# Altium footprint library 3.贴片芯片封装.PcbLib: 26 footprints (part 1 of 2)
Each footprint in its own frame and in the unit in brackets; x right, y up, seen from the top. Pads: shape width x height; smd on the part's side, far side on the other; paste and mask are expansions set on the pad; w line width, h text height; cw(c..) or ccw(c..) is an arc to the next point about the centre after c.
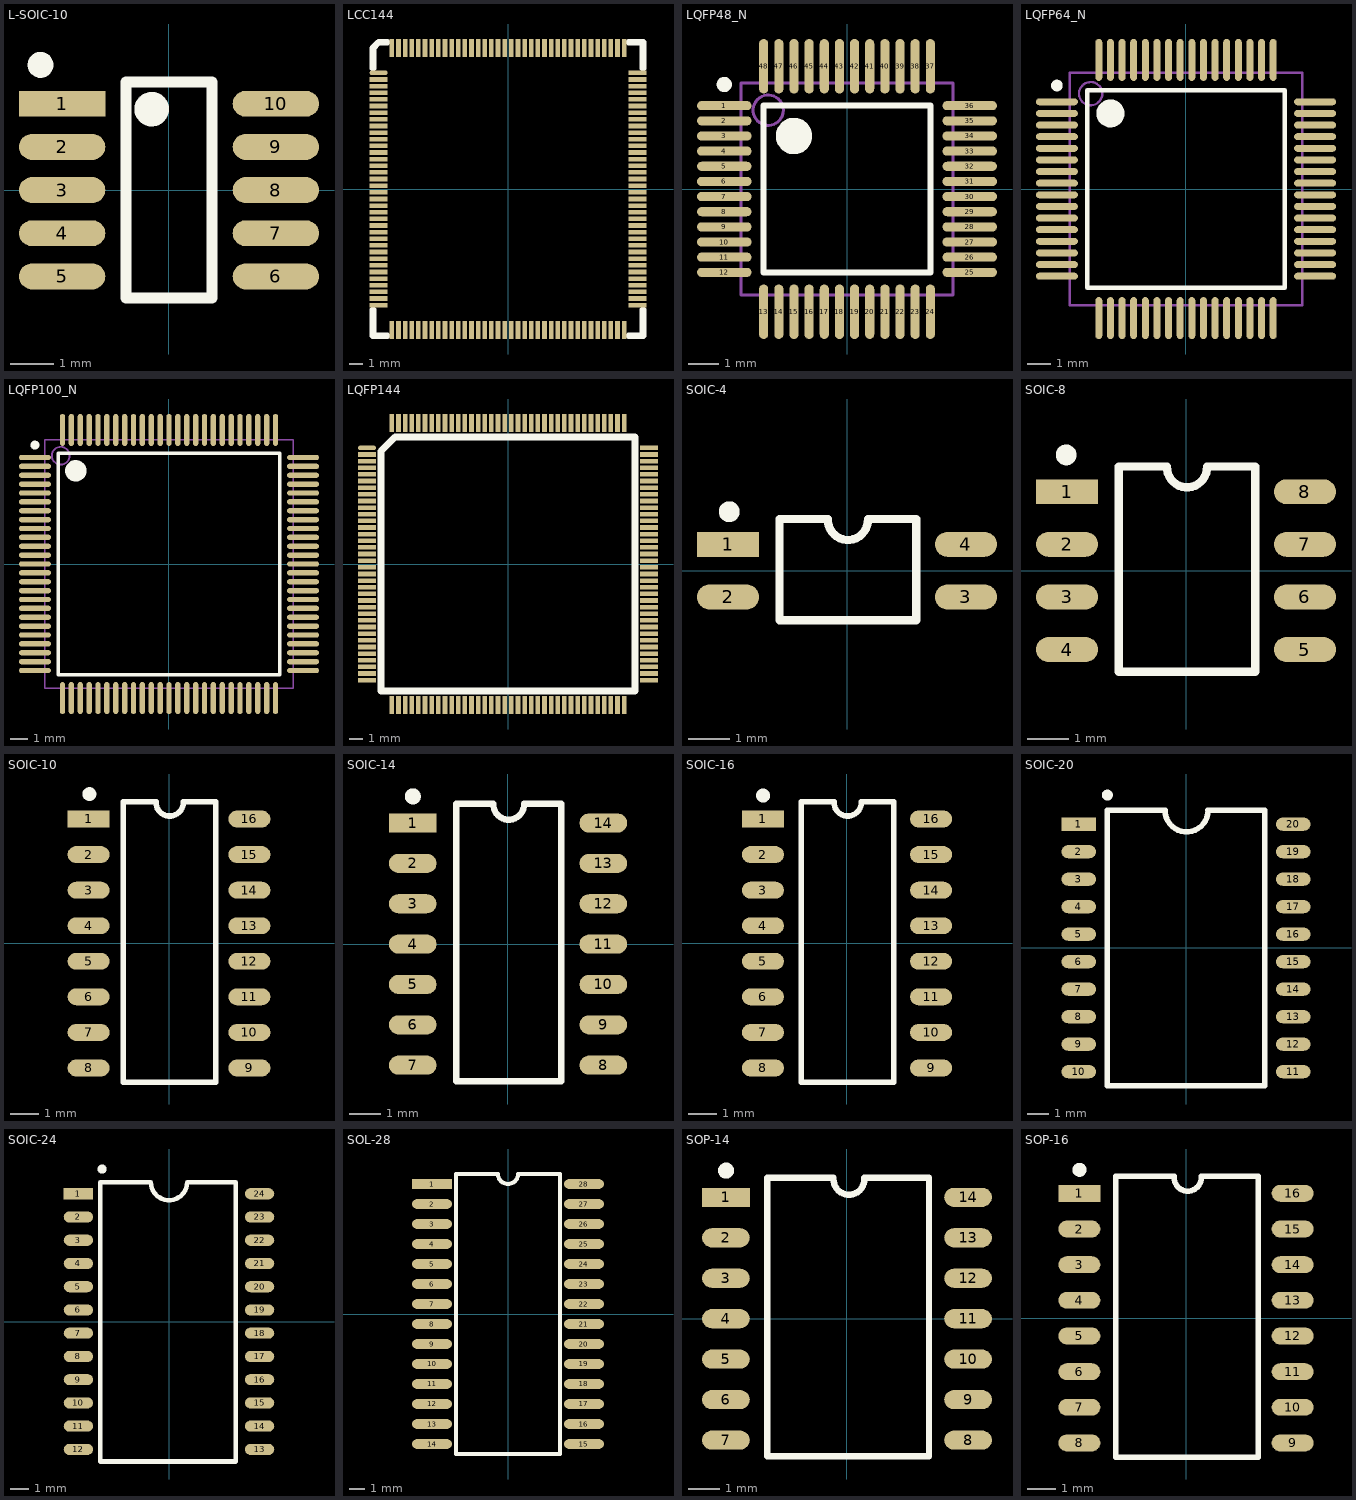
[diagram p0: the footprints below, top view; thin cyan lines are the x and y axes]

## L-SOIC-10 [mm]
pads (10):
  rect 2x0.6 smd: 1(-2.475,2)
  oval 2x0.6 smd: 2(-2.475,1) 3(-2.475,0) 4(-2.475,-1) 5(-2.475,-2) 6(2.475,-2) 7(2.475,-1) 8(2.475,0) 9(2.475,1) 10(2.475,2)
Top Overlay:
  circle w0.3: c-2.975,2.9 r0.15
  circle w0.4: c-0.4,1.875 r0.2
  lines w0.254: -1,-2.5 -1,2.5 1,2.5 1,-2.5 -1,-2.5

## LCC144 [mm]
pads (144):
  oval 1.35x0.35 smd: 1(-9.75,8.75)
  rect 1.35x0.35 smd: 2(-9.75,8.25) 3(-9.75,7.75) 4(-9.75,7.25) 5(-9.75,6.75) 6(-9.75,6.25) 7(-9.75,5.75) 8(-9.75,5.25) 9(-9.75,4.75) 10(-9.75,4.25) 11(-9.75,3.75) 12(-9.75,3.25) 13(-9.75,2.75) 14(-9.75,2.25) 15(-9.75,1.75) 16(-9.75,1.25) 17(-9.75,0.75) 18(-9.75,0.25) 19(-9.75,-0.25) 20(-9.75,-0.75) 21(-9.75,-1.25) 22(-9.75,-1.75) 23(-9.75,-2.25) 24(-9.75,-2.75) 25(-9.75,-3.25) 26(-9.75,-3.75) 27(-9.75,-4.25) 28(-9.75,-4.75) 29(-9.75,-5.25) 30(-9.75,-5.75) 31(-9.75,-6.25) 32(-9.75,-6.75) 33(-9.75,-7.25) 34(-9.75,-7.75) 35(-9.75,-8.25) 36(-9.75,-8.75) 73(9.75,-8.75) 74(9.75,-8.25) 75(9.75,-7.75) 76(9.75,-7.25) 77(9.75,-6.75) 78(9.75,-6.25) 79(9.75,-5.75) 80(9.75,-5.25) 81(9.75,-4.75) 82(9.75,-4.25) 83(9.75,-3.75) 84(9.75,-3.25) 85(9.75,-2.75) 86(9.75,-2.25) 87(9.75,-1.75) 88(9.75,-1.25) 89(9.75,-0.75) 90(9.75,-0.25) 91(9.75,0.25) 92(9.75,0.75) 93(9.75,1.25) 94(9.75,1.75) 95(9.75,2.25) 96(9.75,2.75) 97(9.75,3.25) 98(9.75,3.75) 99(9.75,4.25) 100(9.75,4.75) 101(9.75,5.25) 102(9.75,5.75) 103(9.75,6.25) 104(9.75,6.75) 105(9.75,7.25) 106(9.75,7.75) 107(9.75,8.25) 108(9.75,8.75)
  rect 0.35x1.35 smd: 37(-8.75,-10.625) 38(-8.25,-10.625) 39(-7.75,-10.625) 40(-7.25,-10.625) 41(-6.75,-10.625) 42(-6.25,-10.625) 43(-5.75,-10.625) 44(-5.25,-10.625) 45(-4.75,-10.625) 46(-4.25,-10.625) 47(-3.75,-10.625) 48(-3.25,-10.625) 49(-2.75,-10.625) 50(-2.25,-10.625) 51(-1.75,-10.625) 52(-1.25,-10.625) 53(-0.75,-10.625) 54(-0.25,-10.625) 55(0.25,-10.625) 56(0.75,-10.625) 57(1.25,-10.625) 58(1.75,-10.625) 59(2.25,-10.625) 60(2.75,-10.625) 61(3.25,-10.625) 62(3.75,-10.625) 63(4.25,-10.625) 64(4.75,-10.625) 65(5.25,-10.625) 66(5.75,-10.625) 67(6.25,-10.625) 68(6.75,-10.625) 69(7.25,-10.625) 70(7.75,-10.625) 71(8.25,-10.625) 72(8.75,-10.625) 109(8.75,10.625) 110(8.25,10.625) 111(7.75,10.625) 112(7.25,10.625) 113(6.75,10.625) 114(6.25,10.625) 115(5.75,10.625) 116(5.25,10.625) 117(4.75,10.625) 118(4.25,10.625) 119(3.75,10.625) 120(3.25,10.625) 121(2.75,10.625) 122(2.25,10.625) 123(1.75,10.625) 124(1.25,10.625) 125(0.75,10.625) 126(0.25,10.625) 127(-0.25,10.625) 128(-0.75,10.625) 129(-1.25,10.625) 130(-1.75,10.625) 131(-2.25,10.625) 132(-2.75,10.625) 133(-3.25,10.625) 134(-3.75,10.625) 135(-4.25,10.625) 136(-4.75,10.625) 137(-5.25,10.625) 138(-5.75,10.625) 139(-6.25,10.625) 140(-6.75,10.625) 141(-7.25,10.625) 142(-7.75,10.625) 143(-8.25,10.625) 144(-8.75,10.625)
Top Overlay:
  lines w0.5: -10.175,-9.1 -10.175,-11.05 -9.1,-11.05 ; -10.175,9.1 -10.175,10.625 -9.75,11.05 -9.1,11.05 ; 9.1,-11.05 10.175,-11.05 10.175,-9.1 ; 9.1,11.05 10.175,11.05 10.175,9.1

## LQFP48_N [mm]
pads (48):
  oval 1.8x0.3 smd: 1(-4.05,2.75) 2(-4.05,2.25) 3(-4.05,1.75) 4(-4.05,1.25) 5(-4.05,0.75) 6(-4.05,0.25) 7(-4.05,-0.25) 8(-4.05,-0.75) 9(-4.05,-1.25) 10(-4.05,-1.75) 11(-4.05,-2.25) 12(-4.05,-2.75) 25(4.05,-2.75) 26(4.05,-2.25) 27(4.05,-1.75) 28(4.05,-1.25) 29(4.05,-0.75) 30(4.05,-0.25) 31(4.05,0.25) 32(4.05,0.75) 33(4.05,1.25) 34(4.05,1.75) 35(4.05,2.25) 36(4.05,2.75)
  oval 0.3x1.8 smd: 13(-2.75,-4.05) 14(-2.25,-4.05) 15(-1.75,-4.05) 16(-1.25,-4.05) 17(-0.75,-4.05) 18(-0.25,-4.05) 19(0.25,-4.05) 20(0.75,-4.05) 21(1.25,-4.05) 22(1.75,-4.05) 23(2.25,-4.05) 24(2.75,-4.05) 37(2.75,4.05) 38(2.25,4.05) 39(1.75,4.05) 40(1.25,4.05) 41(0.75,4.05) 42(0.25,4.05) 43(-0.25,4.05) 44(-0.75,4.05) 45(-1.25,4.05) 46(-1.75,4.05) 47(-2.25,4.05) 48(-2.75,4.05)
Top Overlay:
  circle w0.25: c-4.05,3.45 r0.125
  circle w0.6: c-1.75,1.75 r0.3
  lines w0.2: -2.75,-2.75 -2.75,2.75 2.75,2.75 2.75,-2.75 -2.75,-2.75
Mechanical 13:
  circle w0.1: c-2.6,2.6 r0.5
  lines w0.1: -3.5,-3.5 -3.5,3.5 3.5,3.5 3.5,-3.5 -3.5,-3.5

## LQFP64_N [mm]
pads (64):
  oval 1.8x0.3 smd: 1(-5.55,3.75) 2(-5.55,3.25) 3(-5.55,2.75) 4(-5.55,2.25) 5(-5.55,1.75) 6(-5.55,1.25) 7(-5.55,0.75) 8(-5.55,0.25) 9(-5.55,-0.25) 10(-5.55,-0.75) 11(-5.55,-1.25) 12(-5.55,-1.75) 13(-5.55,-2.25) 14(-5.55,-2.75) 15(-5.55,-3.25) 16(-5.55,-3.75) 33(5.55,-3.75) 34(5.55,-3.25) 35(5.55,-2.75) 36(5.55,-2.25) 37(5.55,-1.75) 38(5.55,-1.25) 39(5.55,-0.75) 40(5.55,-0.25) 41(5.55,0.25) 42(5.55,0.75) 43(5.55,1.25) 44(5.55,1.75) 45(5.55,2.25) 46(5.55,2.75) 47(5.55,3.25) 48(5.55,3.75)
  oval 0.3x1.8 smd: 17(-3.75,-5.55) 18(-3.25,-5.55) 19(-2.75,-5.55) 20(-2.25,-5.55) 21(-1.75,-5.55) 22(-1.25,-5.55) 23(-0.75,-5.55) 24(-0.25,-5.55) 25(0.25,-5.55) 26(0.75,-5.55) 27(1.25,-5.55) 28(1.75,-5.55) 29(2.25,-5.55) 30(2.75,-5.55) 31(3.25,-5.55) 32(3.75,-5.55) 49(3.75,5.55) 50(3.25,5.55) 51(2.75,5.55) 52(2.25,5.55) 53(1.75,5.55) 54(1.25,5.55) 55(0.75,5.55) 56(0.25,5.55) 57(-0.25,5.55) 58(-0.75,5.55) 59(-1.25,5.55) 60(-1.75,5.55) 61(-2.25,5.55) 62(-2.75,5.55) 63(-3.25,5.55) 64(-3.75,5.55)
Top Overlay:
  circle w0.25: c-5.55,4.45 r0.125
  circle w0.6: c-3.25,3.25 r0.3
  lines w0.2: -4.25,-4.25 -4.25,4.25 4.25,4.25 4.25,-4.25 -4.25,-4.25
Mechanical 13:
  circle w0.1: c-4.1,4.1 r0.5
  lines w0.1: -5,-5 -5,5 5,5 5,-5 -5,-5

## LQFP100_N [mm]
pads (100):
  oval 1.8x0.3 smd: 1(-7.55,6) 2(-7.55,5.5) 3(-7.55,5) 4(-7.55,4.5) 5(-7.55,4) 6(-7.55,3.5) 7(-7.55,3) 8(-7.55,2.5) 9(-7.55,2) 10(-7.55,1.5) 11(-7.55,1) 12(-7.55,0.5) 13(-7.55,0) 14(-7.55,-0.5) 15(-7.55,-1) 16(-7.55,-1.5) 17(-7.55,-2) 18(-7.55,-2.5) 19(-7.55,-3) 20(-7.55,-3.5) 21(-7.55,-4) 22(-7.55,-4.5) 23(-7.55,-5) 24(-7.55,-5.5) 25(-7.55,-6) 51(7.55,-6) 52(7.55,-5.5) 53(7.55,-5) 54(7.55,-4.5) 55(7.55,-4) 56(7.55,-3.5) 57(7.55,-3) 58(7.55,-2.5) 59(7.55,-2) 60(7.55,-1.5) 61(7.55,-1) 62(7.55,-0.5) 63(7.55,0) 64(7.55,0.5) 65(7.55,1) 66(7.55,1.5) 67(7.55,2) 68(7.55,2.5) 69(7.55,3) 70(7.55,3.5) 71(7.55,4) 72(7.55,4.5) 73(7.55,5) 74(7.55,5.5) 75(7.55,6)
  oval 0.3x1.8 smd: 26(-6,-7.55) 27(-5.5,-7.55) 28(-5,-7.55) 29(-4.5,-7.55) 30(-4,-7.55) 31(-3.5,-7.55) 32(-3,-7.55) 33(-2.5,-7.55) 34(-2,-7.55) 35(-1.5,-7.55) 36(-1,-7.55) 37(-0.5,-7.55) 38(0,-7.55) 39(0.5,-7.55) 40(1,-7.55) 41(1.5,-7.55) 42(2,-7.55) 43(2.5,-7.55) 44(3,-7.55) 45(3.5,-7.55) 46(4,-7.55) 47(4.5,-7.55) 48(5,-7.55) 49(5.5,-7.55) 50(6,-7.55) 76(6,7.55) 77(5.5,7.55) 78(5,7.55) 79(4.5,7.55) 80(4,7.55) 81(3.5,7.55) 82(3,7.55) 83(2.5,7.55) 84(2,7.55) 85(1.5,7.55) 86(1,7.55) 87(0.5,7.55) 88(0,7.55) 89(-0.5,7.55) 90(-1,7.55) 91(-1.5,7.55) 92(-2,7.55) 93(-2.5,7.55) 94(-3,7.55) 95(-3.5,7.55) 96(-4,7.55) 97(-4.5,7.55) 98(-5,7.55) 99(-5.5,7.55) 100(-6,7.55)
Top Overlay:
  circle w0.25: c-7.55,6.7 r0.125
  circle w0.6: c-5.25,5.25 r0.3
  lines w0.2: -6.25,-6.25 -6.25,6.25 6.25,6.25 6.25,-6.25 -6.25,-6.25
Mechanical 13:
  circle w0.1: c-6.1,6.1 r0.5
  lines w0.1: -7,-7 -7,7 7,7 7,-7 -7,-7

## LQFP144 [mm]
pads (144):
  oval 1.35x0.35 smd: 1(-10.625,8.75)
  rect 1.35x0.35 smd: 2(-10.625,8.25) 3(-10.625,7.75) 4(-10.625,7.25) 5(-10.625,6.75) 6(-10.625,6.25) 7(-10.625,5.75) 8(-10.625,5.25) 9(-10.625,4.75) 10(-10.625,4.25) 11(-10.625,3.75) 12(-10.625,3.25) 13(-10.625,2.75) 14(-10.625,2.25) 15(-10.625,1.75) 16(-10.625,1.25) 17(-10.625,0.75) 18(-10.625,0.25) 19(-10.625,-0.25) 20(-10.625,-0.75) 21(-10.625,-1.25) 22(-10.625,-1.75) 23(-10.625,-2.25) 24(-10.625,-2.75) 25(-10.625,-3.25) 26(-10.625,-3.75) 27(-10.625,-4.25) 28(-10.625,-4.75) 29(-10.625,-5.25) 30(-10.625,-5.75) 31(-10.625,-6.25) 32(-10.625,-6.75) 33(-10.625,-7.25) 34(-10.625,-7.75) 35(-10.625,-8.25) 36(-10.625,-8.75) 73(10.625,-8.75) 74(10.625,-8.25) 75(10.625,-7.75) 76(10.625,-7.25) 77(10.625,-6.75) 78(10.625,-6.25) 79(10.625,-5.75) 80(10.625,-5.25) 81(10.625,-4.75) 82(10.625,-4.25) 83(10.625,-3.75) 84(10.625,-3.25) 85(10.625,-2.75) 86(10.625,-2.25) 87(10.625,-1.75) 88(10.625,-1.25) 89(10.625,-0.75) 90(10.625,-0.25) 91(10.625,0.25) 92(10.625,0.75) 93(10.625,1.25) 94(10.625,1.75) 95(10.625,2.25) 96(10.625,2.75) 97(10.625,3.25) 98(10.625,3.75) 99(10.625,4.25) 100(10.625,4.75) 101(10.625,5.25) 102(10.625,5.75) 103(10.625,6.25) 104(10.625,6.75) 105(10.625,7.25) 106(10.625,7.75) 107(10.625,8.25) 108(10.625,8.75)
  rect 0.35x1.35 smd: 37(-8.75,-10.625) 38(-8.25,-10.625) 39(-7.75,-10.625) 40(-7.25,-10.625) 41(-6.75,-10.625) 42(-6.25,-10.625) 43(-5.75,-10.625) 44(-5.25,-10.625) 45(-4.75,-10.625) 46(-4.25,-10.625) 47(-3.75,-10.625) 48(-3.25,-10.625) 49(-2.75,-10.625) 50(-2.25,-10.625) 51(-1.75,-10.625) 52(-1.25,-10.625) 53(-0.75,-10.625) 54(-0.25,-10.625) 55(0.25,-10.625) 56(0.75,-10.625) 57(1.25,-10.625) 58(1.75,-10.625) 59(2.25,-10.625) 60(2.75,-10.625) 61(3.25,-10.625) 62(3.75,-10.625) 63(4.25,-10.625) 64(4.75,-10.625) 65(5.25,-10.625) 66(5.75,-10.625) 67(6.25,-10.625) 68(6.75,-10.625) 69(7.25,-10.625) 70(7.75,-10.625) 71(8.25,-10.625) 72(8.75,-10.625) 109(8.75,10.625) 110(8.25,10.625) 111(7.75,10.625) 112(7.25,10.625) 113(6.75,10.625) 114(6.25,10.625) 115(5.75,10.625) 116(5.25,10.625) 117(4.75,10.625) 118(4.25,10.625) 119(3.75,10.625) 120(3.25,10.625) 121(2.75,10.625) 122(2.25,10.625) 123(1.75,10.625) 124(1.25,10.625) 125(0.75,10.625) 126(0.25,10.625) 127(-0.25,10.625) 128(-0.75,10.625) 129(-1.25,10.625) 130(-1.75,10.625) 131(-2.25,10.625) 132(-2.75,10.625) 133(-3.25,10.625) 134(-3.75,10.625) 135(-4.25,10.625) 136(-4.75,10.625) 137(-5.25,10.625) 138(-5.75,10.625) 139(-6.25,10.625) 140(-6.75,10.625) 141(-7.25,10.625) 142(-7.75,10.625) 143(-8.25,10.625) 144(-8.75,10.625)
Top Overlay:
  lines w0.5: -9.565,-9.565 9.565,-9.565 9.565,9.565 -8.505,9.565 -9.565,8.505 -9.565,-9.565

## SOIC-4 [mm]
pads (4):
  rect 1.5x0.6 smd: 1(-2.87,0.635)
  oval 1.5x0.6 smd: 2(-2.87,-0.635) 3(2.87,-0.635) 4(2.87,0.635)
Top Overlay:
  circle w0.25: c-2.843,1.422 r0.125
  lines w0.2: -1.628,-1.194 1.674,-1.194 1.674,1.245 0.505,1.245 cw(c0.023,1.223) -0.46,1.244 -1.628,1.245 -1.628,-1.194

## SOIC-8 [mm]
pads (8):
  rect 1.5x0.6 smd: 1(-2.872,1.905)
  oval 1.5x0.6 smd: 2(-2.872,0.635) 3(-2.872,-0.635) 4(-2.872,-1.905) 5(2.872,-1.905) 6(2.872,-0.635) 7(2.872,0.635) 8(2.872,1.905)
Top Overlay:
  circle w0.25: c-2.894,2.794 r0.125
  lines w0.2: -1.627,-2.438 -1.627,2.515 -0.459,2.515 ccw(c0.024,2.493) 0.507,2.515 1.675,2.515 1.675,-2.438 -1.627,-2.438

## SOIC-10 [mm]
pads (16):
  rect 1.5x0.6 smd: 1(-2.87,4.445)
  oval 1.5x0.6 smd: 2(-2.87,3.175) 3(-2.87,1.905) 4(-2.87,0.635) 5(-2.87,-0.635) 6(-2.87,-1.905) 7(-2.87,-3.175) 8(-2.87,-4.445) 9(2.87,-4.445) 10(2.87,-3.175) 11(2.87,-1.905) 12(2.87,-0.635) 13(2.87,0.635) 14(2.87,1.905) 15(2.87,3.175) 16(2.87,4.445)
Top Overlay:
  circle w0.25: c-2.843,5.334 r0.125
  lines w0.2: -1.628,-4.953 -1.628,5.055 -0.46,5.055 ccw(c0.023,5.033) 0.505,5.055 1.674,5.055 1.674,-4.953 -1.628,-4.953

## SOIC-14 [mm]
pads (14):
  rect 1.5x0.6 smd: 1(-3,3.81)
  oval 1.5x0.6 smd: 2(-3,2.54) 3(-3,1.27) 4(-3,0) 5(-3,-1.27) 6(-3,-2.54) 7(-3,-3.81) 8(3,-3.81) 9(3,-2.54) 10(3,-1.27) 11(3,0) 12(3,1.27) 13(3,2.54) 14(3,3.81)
Top Overlay:
  circle w0.25: c-2.995,4.648 r0.125
  lines w0.2: -1.628,-4.318 1.674,-4.318 1.674,4.42 0.505,4.42 cw(c0.023,4.398) -0.46,4.419 -1.628,4.42 -1.628,-4.293

## SOIC-16 [mm]
pads (16):
  rect 1.5x0.6 smd: 1(-3,4.445)
  oval 1.5x0.6 smd: 2(-3,3.175) 3(-3,1.905) 4(-3,0.635) 5(-3,-0.635) 6(-3,-1.905) 7(-3,-3.175) 8(-3,-4.445) 9(3,-4.445) 10(3,-3.175) 11(3,-1.905) 12(3,-0.635) 13(3,0.635) 14(3,1.905) 15(3,3.175) 16(3,4.445)
Top Overlay:
  circle w0.25: c-2.995,5.283 r0.125
  lines w0.2: -1.628,-4.953 1.674,-4.953 1.674,5.055 0.505,5.055 cw(c0.023,5.033) -0.46,5.054 -1.628,5.055 -1.628,-4.953

## SOIC-20 [mil]
pads (20):
  rect 62.99x24 smd: 1(-195,225)
  oval 62.99x24 smd: 2(-195,175) 3(-195,125) 4(-195,75) 5(-195,25) 6(-195,-25) 7(-195,-75) 8(-195,-125) 9(-195,-175) 10(-195,-225) 11(195,-225) 12(195,-175) 13(195,-125) 14(195,-75) 15(195,-25) 16(195,25) 17(195,75) 18(195,125) 19(195,175) 20(195,225)
Top Overlay:
  circle w9.84: c-142.92,278 r4.92
  lines w10: -143,-251 143,-251 143,250 40,250 cw(c1,250) -38,250 -143,250 -143,-251

## SOIC-24 [mil]
pads (24):
  rect 62.99x24 smd: 1(-195,275)
  oval 62.99x24 smd: 2(-195,225) 3(-195,175) 4(-195,125) 5(-195,75) 6(-195,25) 7(-195,-25) 8(-195,-75) 9(-195,-125) 10(-195,-175) 11(-195,-225) 12(-195,-275) 13(195,-275) 14(195,-225) 15(195,-175) 16(195,-125) 17(195,-75) 18(195,-25) 19(195,25) 20(195,75) 21(195,125) 22(195,175) 23(195,225) 24(195,275)
Top Overlay:
  circle w9.84: c-143.92,328 r4.92
  lines w10: -148,-301 144,-301 144,300 39,300 cw(c0,300) -39,300 -148,300 -148,-301

## SOL-28 [mil]
pads (28):
  rect 100x24 smd: 1(-190,325)
  oval 100x24 smd: 2(-190,275) 3(-190,225) 4(-190,175) 5(-190,125) 6(-190,75) 7(-190,25) 8(-190,-25) 9(-190,-75) 10(-190,-125) 11(-190,-175) 12(-190,-225) 13(-190,-275) 14(-190,-325) 15(190,-325) 16(190,-275) 17(190,-225) 18(190,-175) 19(190,-125) 20(190,-75) 21(190,-25) 22(190,25) 23(190,75) 24(190,125) 25(190,175) 26(190,225) 27(190,275) 28(190,325)
Top Overlay:
  lines w10: -130,-350 -130,350 -25,350 ccw(c0,350) 25,350 130,350 130,-350 -130,-350

## SOP-14 [mm]
pads (14):
  rect 1.5x0.6 smd: 1(-3.8,3.81)
  oval 1.5x0.6 smd: 2(-3.8,2.54) 3(-3.8,1.27) 4(-3.8,0) 5(-3.8,-1.27) 6(-3.8,-2.54) 7(-3.8,-3.81) 8(3.8,-3.81) 9(3.8,-2.54) 10(3.8,-1.27) 11(3.8,0) 12(3.8,1.27) 13(3.8,2.54) 14(3.8,3.81)
Top Overlay:
  circle w0.25: c-3.795,4.648 r0.125
  lines w0.2: -0.422,4.394 ccw(c0.061,4.373) 0.543,4.394 ; -0.422,4.42 -2.505,4.42 -2.505,-4.318 2.575,-4.318 2.575,4.42 0.543,4.42

## SOP-16 [mm]
pads (16):
  rect 1.5x0.6 smd: 1(-3.8,4.445)
  oval 1.5x0.6 smd: 2(-3.8,3.175) 3(-3.8,1.905) 4(-3.8,0.635) 5(-3.8,-0.635) 6(-3.8,-1.905) 7(-3.8,-3.175) 8(-3.8,-4.445) 9(3.8,-4.445) 10(3.8,-3.175) 11(3.8,-1.905) 12(3.8,-0.635) 13(3.8,0.635) 14(3.8,1.905) 15(3.8,3.175) 16(3.8,4.445)
Top Overlay:
  circle w0.25: c-3.795,5.283 r0.125
  lines w0.2: -0.422,5.029 ccw(c0.061,5.008) 0.543,5.029 ; -0.422,5.055 -2.505,5.055 -2.505,-4.953 2.575,-4.953 2.575,5.055 0.543,5.055